# Altium footprint library Oscillator.PcbLib: 6 footprints
Each footprint in its own frame and in the unit in brackets; x right, y up, seen from the top. Pads: shape width x height; smd on the part's side, far side on the other; paste and mask are expansions set on the pad; w line width, h text height; cw(c..) or ccw(c..) is an arc to the next point about the centre after c.
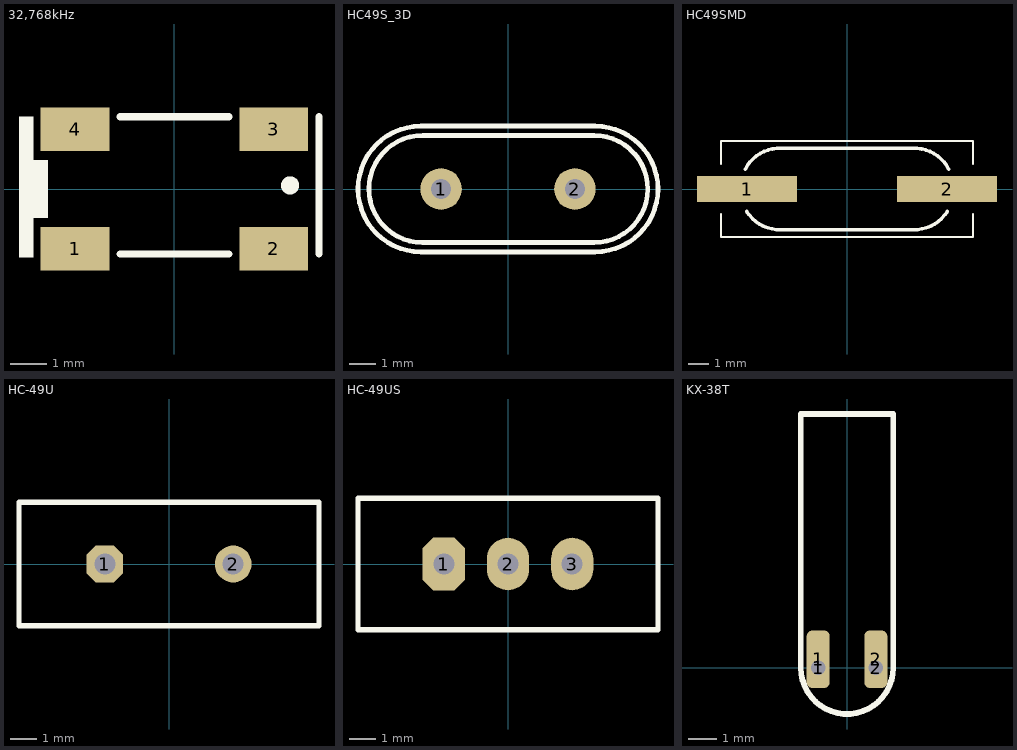
[diagram p0: the footprints below, top view; thin cyan lines are the x and y axes]

## 32,768kHz [mm] "Surface Mount Quartz Generator; Body 5.0 x 3.2 mm (LxW)"
height 1
pads (4):
  rect 1.9x1.2 smd: 1(-2.75,-1.65) 2(2.75,-1.65) 3(2.75,1.65) 4(-2.75,1.65)
Top Overlay:
  circle w0.3: c3.2,0.1 r0.1
  rectangle: -4.3,-1.9 -3.9,2
  rectangle: -3.9,-0.8 -3.5,0.8
  lines w0.2: -1.5,-1.8 1.5,-1.8 ; -1.5,2 1.5,2 ; 4,-1.8 4,2
3D body "ZM206.STEP": height 2.53, standoff 0, extent -4.004,-1.848 3.996,1.952

## HC49S_3D [mil]
height 78.74
pads (2):
  round 62 hole 30: 1(-100,0) 2(100,0)
Top Overlay:
  lines w7: 128.97,79.98 -127.41,79.98 ccw(c-127.67,-0.02) -128,-80.02 128.38,-80.02 ccw(c128.67,0.02) 129,80.02 ; 129.38,-94 -130.06,-94 cw(c-130.01,0) -130.02,94 129.42,94 ; 129.97,-94 ccw(c129.97,0) 130.01,94
3D body "HC-49_LT_THT_16MHz.STEP": height 141.73, standoff -78.35, extent -223.42,-91.53 223.43,91.54

## HC49SMD [mm]
height 2
pads (2):
  rect 5x1.3 smd: 1(-5,0) 2(5,0)
Top Overlay:
  lines w0.1: -6.3,-1.25 -6.3,-2.4 6.3,-2.4 6.3,-1.25 ; -6.3,1.25 -6.3,2.4 6.3,2.4 6.3,1.25
  lines w0.178: -5.082,0.991 cw(c-3.394,0.143) -3.299,2.029 ; -5.016,-1.11 ccw(c-3.394,-0.143) -3.299,-2.029 ; -3.394,2.032 3.276,2.032 ; -3.332,-2.032 3.261,-2.032 ; 3.299,-2.029 ccw(c3.394,-0.143) 5.016,-1.11 ; 3.299,2.029 cw(c3.394,0.143) 5.082,0.991
3D body "SMD Quartz Crystal 8 MHz.STEP": height 4, standoff 0, extent -6.25,-2.4 6.25,2.4

## HC-49U [mm] "Quartz Crystal, Thru-Hole; 2 Leads; Body 11.35 x 4.65 x 13.46 mm (LxWxH max)"
height 13.46
pads (2):
  oct 1.4x1.4 hole 0.8: 1(-2.44,0)
  round 1.4 hole 0.8: 2(2.44,0)
Top Overlay:
  lines w0.2: -5.7,-2.35 -5.7,2.35 5.7,2.35 5.7,-2.35 -5.7,-2.35

## HC-49US [mm] "Quartz Crystal, Thru-Hole; 3 Leads; Body 11.35 x 5 x 3.5 mm (LxWxH max)"
height 3.5
pads (3):
  oct 1.6x2 hole 0.8: 1(-2.44,0)
  oval 1.6x2 hole 0.8: 2(0,0) 3(2.44,0)
Top Overlay:
  lines w0.2: -5.7,-2.5 5.7,-2.5 5.7,2.5 -5.7,2.5 -5.7,-2.5

## KX-38T [mm] "QUARTZ CRYSTALS Cylindrical type"
height 8
pads (4):
  rrect50% 0.8x2 smd: 1(-1,0.3) 2(1,0.3)
  round 0.8 hole 0.5: 1(-1,0) 2(1,0)
Top Overlay:
  lines w0.2: -1.6,0 ccw(c0,0) 1.6,0 1.6,8.8 -1.6,8.8 -1.6,0
3D body "Cylindrical_32.768.STEP": height 2, standoff 0, extent -1.527,-0.776 1.528,8.201